# Altium schematic symbol library ndh-altium.SchLib: 19 symbols
Pins are listed as number, name and electrical type; pins without a type are passive.

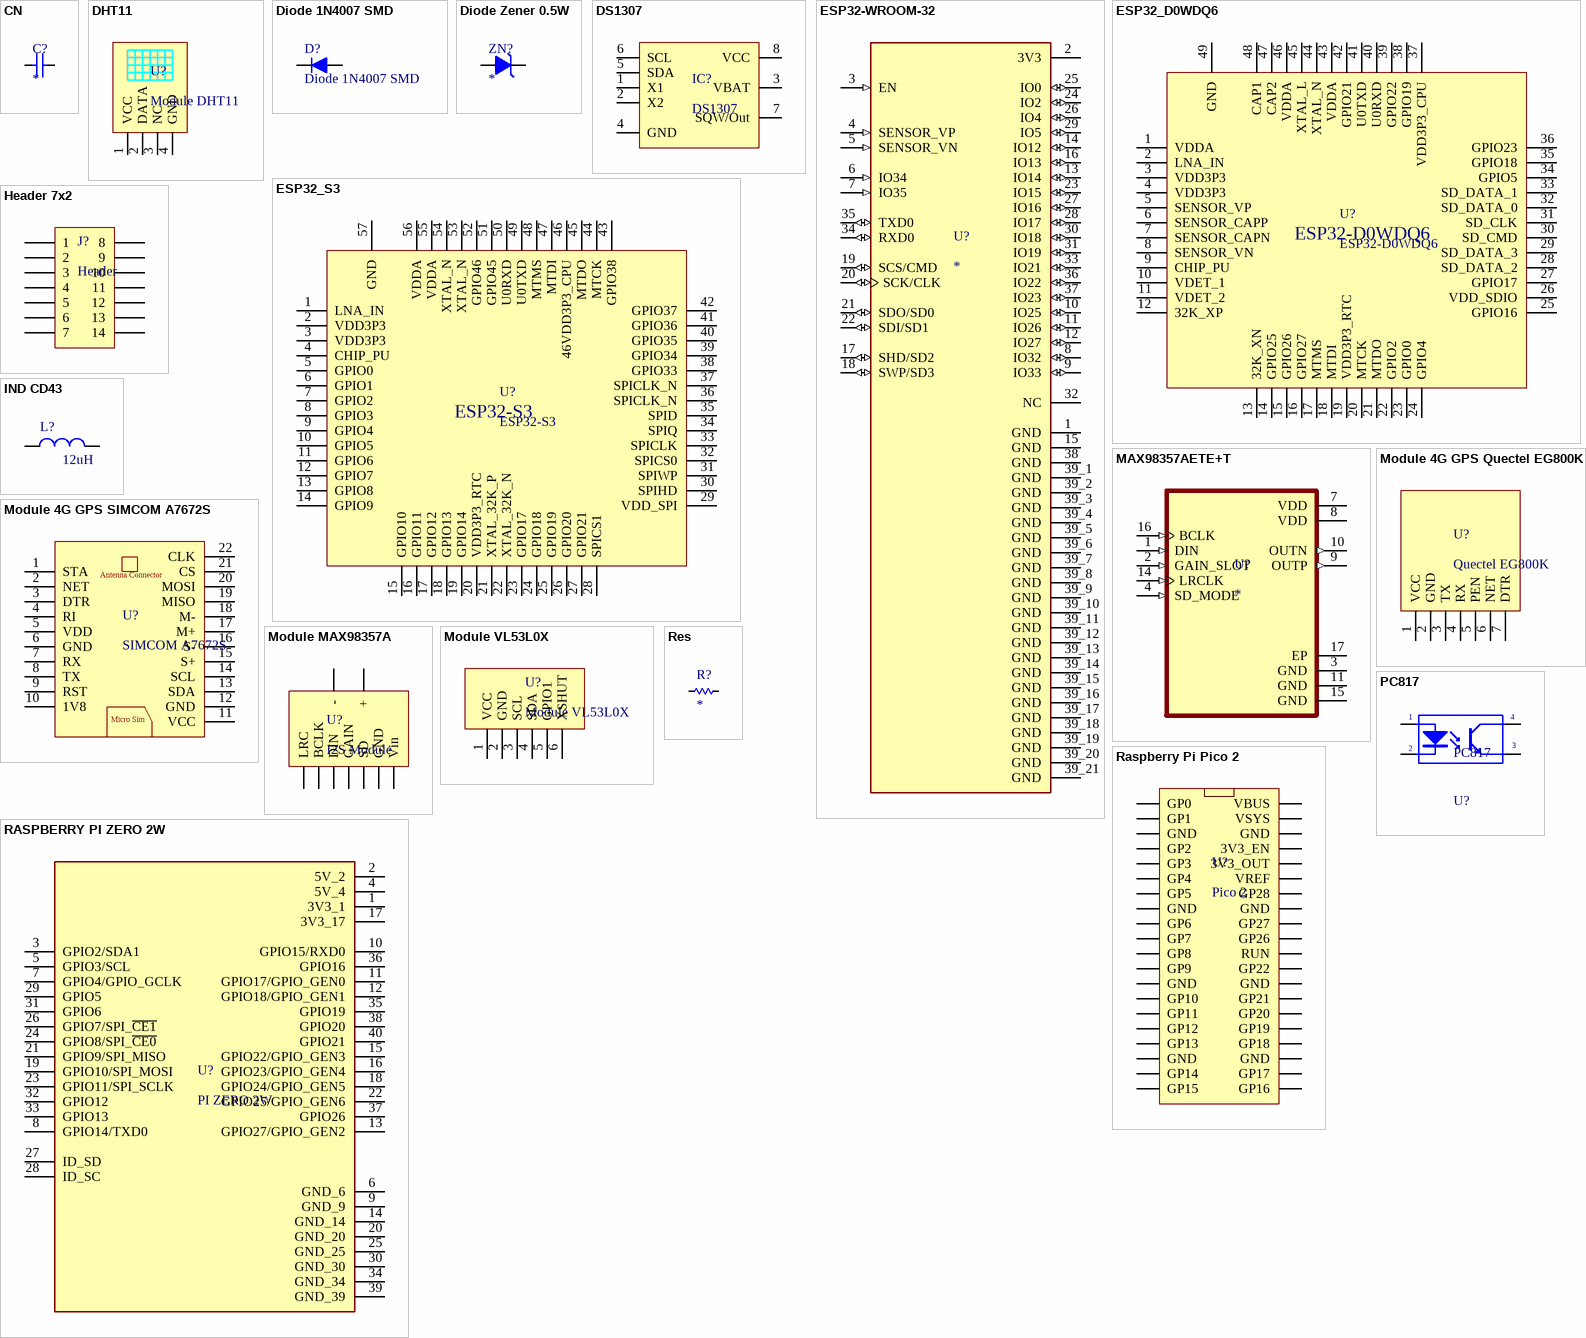
[diagram p0: symbols CN to Res]

## CN
designator C?
Capacitor
footprint Cap 7.5mm
footprint Cap 2.54mm
footprint Cap 3.81mm
footprint Cap 5.08mm
footprint Cap 6.35mm (Tu pin to pin 250mil)
footprint Cap 10mm (Cap np W 0.4)
footprint Cap 15mm
footprint Cap 15mm CBB
footprint Cap 22.5mm
footprint CAP_0805
pins: 1, 2

## DHT11
designator U?, comment Module DHT11
footprint DHT11 (Mdule DHT11)
pins: 1 VCC, 2 DATA, 3 NC, 4 GND

## Diode 1N4007 SMD
designator D?
1N4007 SMD
footprint Diode 1N4007 SMD
pins: 1 K, 2 A

## Diode Zener 0.5W
designator ZN?
footprint DO-35 (Diode 0.5A)
footprint DO-35 Axial (Diode 0.5A Axial)
footprint SOD-323 (Zener Diodes ZENER SOD-323 .55W 3.3V)
pins: 1 A, 2 K

## DS1307
designator IC?
DS1307RTC
footprint DS1307 (DS1307RTC)
pins: 1 X1, 2 X2, 3 VBAT, 4 GND, 5 SDA, 6 SCL, 7 SQW/Out, 8 VCC

## ESP32-WROOM-32
designator U?
Bluetooth, WiFi 802.11b/g/n, Bluetooth v4.2 +EDR, Class 1, 2 and 3 Transceiver Module 2.4GHz ~ 2.5GHz Antenna Not Included, U.FL Surface Mount; MP: ESP32-WROOM-32; MF: Espressif Systems; Price: None; Availability: In Stock; Package: Module Espressif Systems; SnapEDA_Link: https://www.snapeda.com/parts/ESP32-WROOM-32/Espressif+Systems/view-part/?ref=snap; Check_prices: https://www.snapeda.com/parts/ESP32-WROOM-32/Espressif+Systems/view-part/?ref=eda; Value: *; Purchase-URL: https://pricing.snapeda.com/search/part/ESP32-WROOM-32/?ref=eda
footprint MODULE_ESP32-WROOM-32
pins: 1 GND (power), 2 3V3 (power), 3 EN (in), 4 SENSOR_VP (in), 5 SENSOR_VN (in), 6 IO34 (in), 7 IO35 (in), 8 IO32 (io), 9 IO33 (io), 10 IO25 (io), 11 IO26 (io), 12 IO27 (io), 13 IO14 (io), 14 IO12 (io), 15 GND (power), 16 IO13 (io), 17 SHD/SD2 (io), 18 SWP/SD3 (io), 19 SCS/CMD (io), 20 SCK/CLK (io), 21 SDO/SD0 (io), 22 SDI/SD1 (io), 23 IO15 (io), 24 IO2 (io), 25 IO0 (io), 26 IO4 (io), 27 IO16 (io), 28 IO17 (io), 29 IO5 (io), 30 IO18 (io), 31 IO19 (io), 32 NC, 33 IO21 (io), 34 RXD0 (io), 35 TXD0 (io), 36 IO22 (io), 37 IO23 (io), 38 GND (power), 39_1 GND (power), 39_2 GND (power), 39_3 GND (power), 39_4 GND (power), 39_5 GND (power), 39_6 GND (power), 39_7 GND (power), 39_8 GND (power), 39_9 GND (power), 39_10 GND (power), 39_11 GND (power), 39_12 GND (power), 39_13 GND (power), 39_14 GND (power), 39_15 GND (power), 39_16 GND (power), 39_17 GND (power), 39_18 GND (power), 39_19 GND (power), 39_20 GND (power), 39_21 GND (power)

## ESP32_D0WDQ6
designator U?, comment ESP32-D0WDQ6
ESP32_D0WDQ6
footprint ESP32 D0WDQ6
pins: 1 VDDA, 2 LNA_IN, 3 VDD3P3, 4 VDD3P3, 5 SENSOR_VP, 6 SENSOR_CAPP, 7 SENSOR_CAPN, 8 SENSOR_VN, 9 CHIP_PU, 10 VDET_1, 11 VDET_2, 12 32K_XP, 13 32K_XN, 14 GPIO25, 15 GPIO26, 16 GPIO27, 17 MTMS, 18 MTDI, 19 VDD3P3_RTC, 20 MTCK, 21 MTDO, 22 GPIO2, 23 GPIO0, 24 GPIO4, 25 GPIO16, 26 VDD_SDIO, 27 GPIO17, 28 SD_DATA_2, 29 SD_DATA_3, 30 SD_CMD, 31 SD_CLK, 32 SD_DATA_0, 33 SD_DATA_1, 34 GPIO5, 35 GPIO18, 36 GPIO23, 37 VDD3P3_CPU, 38 GPIO19, 39 GPIO22, 40 U0RXD, 41 U0TXD, 42 GPIO21, 43 VDDA, 44 XTAL_N, 45 XTAL_L, 46 VDDA, 47 CAP2, 48 CAP1, 49 GND

## ESP32_S3
designator U?, comment ESP32-S3
ESP32_S3
footprint ESP32-S3
pins: 1 LNA_IN, 2 VDD3P3, 3 VDD3P3, 4 CHIP_PU, 5 GPIO0, 6 GPIO1, 7 GPIO2, 8 GPIO3, 9 GPIO4, 10 GPIO5, 11 GPIO6, 12 GPIO7, 13 GPIO8, 14 GPIO9, 15 GPIO10, 16 GPIO11, 17 GPIO12, 18 GPIO13, 19 GPIO14, 20 VDD3P3_RTC, 21 XTAL_32K_P, 22 XTAL_32K_N, 23 GPIO17, 24 GPIO18, 25 GPIO19, 26 GPIO20, 27 GPIO21, 28 SPICS1, 29 VDD_SPI, 30 SPIHD, 31 SPIWP, 32 SPICS0, 33 SPICLK, 34 SPIQ, 35 SPID, 36 SPICLK_N, 37 SPICLK_N, 38 GPIO33, 39 GPIO34, 40 GPIO35, 41 GPIO36, 42 GPIO37, 43 GPIO38, 44 MTCK, 45 MTDO, 46 46VDD3P3_CPU, 47 MTDI, 48 MTMS, 49 U0TXD, 50 U0RXD, 51 GPIO45, 52 GPIO46, 53 XTAL_N, 54 XTAL_N, 55 VDDA, 56 VDDA, 57 GND

## Header 7x2
designator J?, comment Header
footprint Header 7x2 (Header 7x2 Connector)
pins: 1, 2, 3, 4, 5, 6, 7, 8, 9, 10, 11, 12, 13, 14

## IND CD43
designator L?, comment 12uH
Cuon cam CD43 120MC 12uH Inductor; Value: 150 mH
footprint IND CD43
pins: 1, 2

## MAX98357AETE+T
designator U?
Tiny, Low-Cost, PCM Class D Amplifier with Class AB Performance; MF: Analog Devices; MP: MAX98357AETE+T; SnapEDA_Link: https://www.snapeda.com/parts/MAX98357AETE+T/Analog+Devices/view-part/?ref=snap; Package: TQFN-16 Maxim; Value: *; Check_prices: https://www.snapeda.com/parts/MAX98357AETE+T/Analog+Devices/view-part/?ref=eda
footprint QFN50P300X300X80-17N
pins: 1 DIN (in), 2 GAIN_SLOT (in), 3 GND (power), 4 SD_MODE (in), 7 VDD (power), 8 VDD (power), 9 OUTP (out), 10 OUTN (out), 11 GND (power), 14 LRCLK (in), 15 GND (power), 16 BCLK (in), 17 EP (power)

## Module 4G GPS Quectel EG800K
designator U?, comment Quectel EG800K
Module 4G GPS Quectel EG800K
footprint Module 4G GPS Quectel EG800K
pins: 1 VCC, 2 GND, 3 TX, 4 RX, 5 PEN, 6 NET, 7 DTR

## Module 4G GPS SIMCOM A7672S
designator U?, comment SIMCOM A7672S
Module 4G GPS SIMCOM A7672S
footprint Module 4G A7672S
pins: 1 STA, 2 NET, 3 DTR, 4 RI, 5 VDD, 6 GND, 7 RX, 8 TX, 9 RST, 10 1V8, 11 VCC, 12 GND, 13 SDA, 14 SCL, 15 S+, 16 S-, 17 M+, 18 M-, 19 MISO, 20 MOSI, 21 CS, 22 CLK
text: Antenna Connector; Micro Sim

## Module MAX98357A
designator U?, comment I2S Module
Module MAX98357A I2S
footprint Module MAX98357A
pins: 1 LRC, 2 BCLK, 3 DIN, 4 GAIN, 5 SD, 6 GND, 7 Vin, 8 +, 9 -

## Module VL53L0X
designator U?
footprint Module VL53L0X
pins: 1 VCC, 2 GND, 3 SCL, 4 SDA, 5 GPIO1, 6 XSHUT

## PC817
designator U?
Single Opto; Value: PC817
footprint PC817
footprint PC817 SMD
pins: 1 A "Anode", 2 K "Cathode", 3 E "Emitter", 4 C "Collector"

## Raspberry Pi Pico 2
designator U?, comment Pico 2
Raspberry Pi Pico 2
footprint RASPBERRY_PI_PICO
footprint RASPBERRY_PI_PICO_SMD
pins: 1 GP0, 2 GP1, 3 GND, 4 GP2, 5 GP3, 6 GP4, 7 GP5, 8 GND, 9 GP6, 10 GP7, 11 GP8, 12 GP9, 13 GND, 14 GP10, 15 GP11, 16 GP12, 17 GP13, 18 GND, 19 GP14, 20 GP15, 21 GP16, 22 GP17, 23 GND, 24 GP18, 25 GP19, 26 GP20, 27 GP21, 28 GND, 29 GP22, 30 RUN, 31 GP26, 32 GP27, 33 GND, 34 GP28, 35 VREF, 36 3V3_OUT, 37 3V3_EN, 38 GND, 39 VSYS, 40 VBUS

## RASPBERRY PI ZERO 2W
designator U?, comment PI ZERO 2W
RASPBERRY PI ZERO 2W; SnapEDA_Link: https://www.snapeda.com/parts/RASPBERRY%20PI%20ZERO%202%20W/Raspberry+Pi/view-part/?ref=snap; Package: None; Value: *; MF: Raspberry Pi; MP: RASPBERRY PI ZERO 2 W; Check_prices: https://www.snapeda.com/parts/RASPBERRY%20PI%20ZERO%202%20W/Raspberry+Pi/view-part/?ref=eda
footprint MODULE_RASPBERRY_PI_ZERO_2_W
footprint RASPBERRY PI ZERO 2W
pins: 1 3V3_1, 2 5V_2, 3 GPIO2/SDA1, 4 5V_4, 5 GPIO3/SCL, 6 GND_6, 7 GPIO4/GPIO_GCLK, 8 GPIO14/TXD0, 9 GND_9, 10 GPIO15/RXD0, 11 GPIO17/GPIO_GEN0, 12 GPIO18/GPIO_GEN1, 13 GPIO27/GPIO_GEN2, 14 GND_14, 15 GPIO22/GPIO_GEN3, 16 GPIO23/GPIO_GEN4, 17 3V3_17, 18 GPIO24/GPIO_GEN5, 19 GPIO10/SPI_MOSI, 20 GND_20, 21 GPIO9/SPI_MISO, 22 GPIO25/GPIO_GEN6, 23 GPIO11/SPI_SCLK, 24 GPIO8/SPI_~{CE0}, 25 GND_25, 26 GPIO7/SPI_~{CE1}, 27 ID_SD, 28 ID_SC, 29 GPIO5, 30 GND_30, 31 GPIO6, 32 GPIO12, 33 GPIO13, 34 GND_34, 35 GPIO19, 36 GPIO16, 37 GPIO26, 38 GPIO20, 39 GND_39, 40 GPIO21

## Res
designator R?
footprint RES-1/4W
footprint RES-SMD-0805
pins: 1, 2